# EAGLE library part MAN6780E (library 7segment)
LED DISPLAY 1-character 7 segment, decimal point right
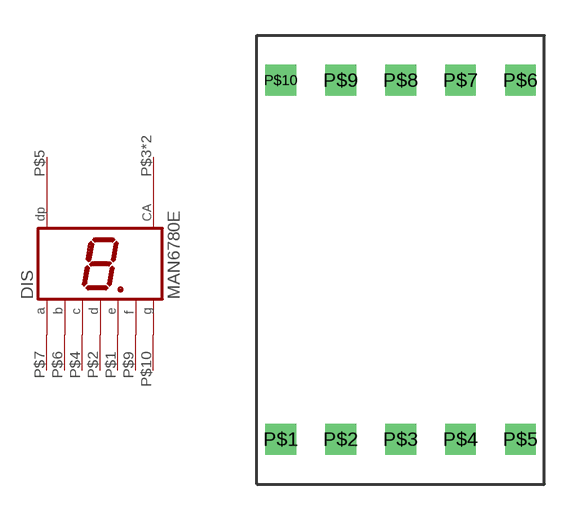
[diagram p0: symbol with the pads of MAN6780; footprint MAN6780]

Designator prefix DIS

## MAN6780E  [MAN6780]
P$1  E  pas
P$2  D  pas
P$3  CA  pas
P$4  C  pas
P$5  DP  pas
P$6  B  pas
P$7  A  pas
P$8  CA  pas
P$9  F  pas
P$10  G  pas

## Footprint MAN6780 (pad centres in mm)
MAN6780 package
drill 0.8 square: P$1 0,-15.24; P$2 2.54,-15.24; P$3 5.08,-15.24; P$4 7.62,-15.24; P$5 10.16,-15.24; P$6 10.16,0; P$7 7.62,0; P$8 5.08,0; P$9 2.54,0; P$10 0,0